# Altium schematic symbol library STL6P3LLH6.SchLib: 1 symbol
Pins are listed as number, name and electrical type; pins without a type are passive.

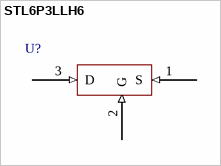
[diagram p0: symbol STL6P3LLH6]

## STL6P3LLH6
designator U?  (value not drawn)
footprint powerflat
pins: 1 S (in), 2 G (in), 3 D (in)